# Altium schematic symbol library SN74AVC4T245PWR.SchLib: 1 symbol
Pins are listed as number, name and electrical type; pins without a type are passive.

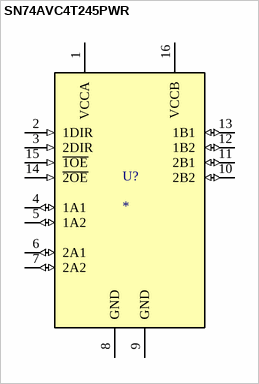
[diagram p0: symbol SN74AVC4T245PWR]

## SN74AVC4T245PWR
designator U?
4-Bit Dual-Supply Bus Transceiver with Configurable Voltage-Level Shifting and 3-State Outputs 16-TSSOP -40 to 85; MF: Texas Instruments; MP: SN74AVC4T245PWR; Price: None; Check_prices: https://www.snapeda.com/parts/SN74AVC4T245PWR/Texas%20Instruments/view-part/236340/?ref=eda; SnapEDA_Link: https://www.snapeda.com/parts/SN74AVC4T245PWR/Texas%20Instruments/view-part/236340/?ref=snap; Package: TSSOP-16 Texas Instruments; Purchase-URL: https://pricing.snapeda.com/search/part/SN74AVC4T245PWR/?ref=eda; Availability: Good; Value: *
footprint SOP65P640X120-16N
pins: 1 VCCA (power), 2 1DIR (in), 3 2DIR (in), 4 1A1 (io), 5 1A2 (io), 6 2A1 (io), 7 2A2 (io), 8 GND (power), 9 GND (power), 10 2B2 (io), 11 2B1 (io), 12 1B2 (io), 13 1B1 (io), 14 ~{2OE} (in), 15 ~{1OE} (in), 16 VCCB (power)